# Altium schematic symbol library Anybus-CompactCom_B40.SchLib: 2 symbols
Pins are listed as number, name and electrical type; pins without a type are passive.

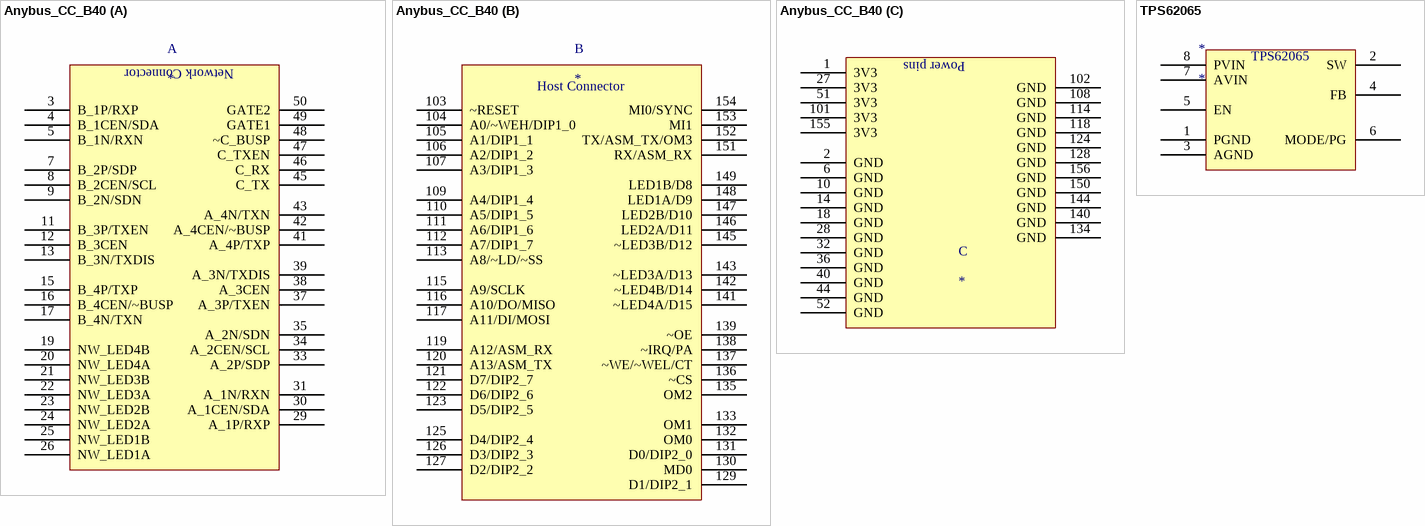
[diagram p0: symbols Anybus_CC_B40 to TPS62065]

## Anybus_CC_B40
designator ?
footprint Anybus-CC-B40
part A pins: 3 B_1P/RXP, 4 B_1CEN/SDA, 5 B_1N/RXN, 7 B_2P/SDP, 8 B_2CEN/SCL, 9 B_2N/SDN, 11 B_3P/TXEN, 12 B_3CEN, 13 B_3N/TXDIS, 15 B_4P/TXP, 16 B_4CEN/~BUSP, 17 B_4N/TXN, 19 NW_LED4B, 20 NW_LED4A, 21 NW_LED3B, 22 NW_LED3A, 23 NW_LED2B, 24 NW_LED2A, 25 NW_LED1B, 26 NW_LED1A, 29 A_1P/RXP, 30 A_1CEN/SDA, 31 A_1N/RXN, 33 A_2P/SDP, 34 A_2CEN/SCL, 35 A_2N/SDN, 37 A_3P/TXEN, 38 A_3CEN, 39 A_3N/TXDIS, 41 A_4P/TXP, 42 A_4CEN/~BUSP, 43 A_4N/TXN, 45 C_TX, 46 C_RX, 47 C_TXEN, 48 ~C_BUSP, 49 GATE1, 50 GATE2
part B pins: 103 ~RESET, 104 A0/~WEH/DIP1_0, 105 A1/DIP1_1, 106 A2/DIP1_2, 107 A3/DIP1_3, 109 A4/DIP1_4, 110 A5/DIP1_5, 111 A6/DIP1_6, 112 A7/DIP1_7, 113 A8/~LD/~SS, 115 A9/SCLK, 116 A10/DO/MISO, 117 A11/DI/MOSI, 119 A12/ASM_RX, 120 A13/ASM_TX, 121 D7/DIP2_7, 122 D6/DIP2_6, 123 D5/DIP2_5, 125 D4/DIP2_4, 126 D3/DIP2_3, 127 D2/DIP2_2, 129 D1/DIP2_1, 130 MD0, 131 D0/DIP2_0, 132 OM0, 133 OM1, 135 OM2, 136 ~CS, 137 ~WE/~WEL/CT, 138 ~IRQ/PA, 139 ~OE, 141 ~LED4A/D15, 142 ~LED4B/D14, 143 ~LED3A/D13, 145 ~LED3B/D12, 146 LED2A/D11, 147 LED2B/D10, 148 LED1A/D9, 149 LED1B/D8, 151 RX/ASM_RX, 152 TX/ASM_TX/OM3, 153 MI1, 154 MI0/SYNC
part C pins: 1 3V3, 2 GND, 6 GND, 10 GND, 14 GND, 18 GND, 27 3V3, 28 GND, 32 GND, 36 GND, 40 GND, 44 GND, 51 3V3, 52 GND, 101 3V3, 102 GND, 108 GND, 114 GND, 118 GND, 124 GND, 128 GND, 134 GND, 140 GND, 144 GND, 150 GND, 155 3V3, 156 GND
part A text: Network Connector
part B text: Host Connector
part C text: Power pins

## TPS62065
designator *
footprint TPS62065 (PSON, 8-Leads, Body 2,00x2,00mm, Pitch 0,50mm, Thermal Pad 1,60x0,95mm, IPC Medium Density)
pins: 1 PGND, 2 SW, 3 AGND, 4 FB, 5 EN, 6 MODE/PG, 7 AVIN, 8 PVIN